# Altium schematic symbol library 1984824.SchLib: 1 symbol
Pins are listed as number, name and electrical type; pins without a type are passive.

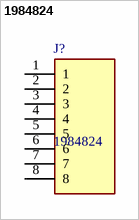
[diagram p0: symbol 1984824]

## 1984824
designator J?
PCB terminal block, nominal current: 17.5 A, rated voltage (III/2): 200 V, nominal cross section: 1.5 mm?, Number of potentials: 8, Number of rows: 1, Number of positions per row: 8, product range: PT 1,5/..-V, pitch: 3.5 mm, connection method: Screw connection with wire protector, mounting: Wave soldering, conductor/PCB connection direction: 90 ?, color: green, Pin layout: Linear pinning, Solder pin [P]: 4.5 mm, type of packaging: packed in cardboard; Manufacturer_Name: Phoenix Contact; Geometry.Height: 7.7mm; Mouser Part Number: 651-1984824; Mouser Price/Stock: https://www.mouser.com/Search/Refine.aspx?Keyword=651-1984824; Manufacturer_Part_Number: 1984824; Datasheet Link: https://componentsearchengine.com/Datasheets/1/1984824.pdf
footprint 1984824
pins: 1, 2, 3, 4, 5, 6, 7, 8